# EAGLE library part SG3525AN (library ST Microelectronics)
REGULATING PULSE WIDTH MODULATORS
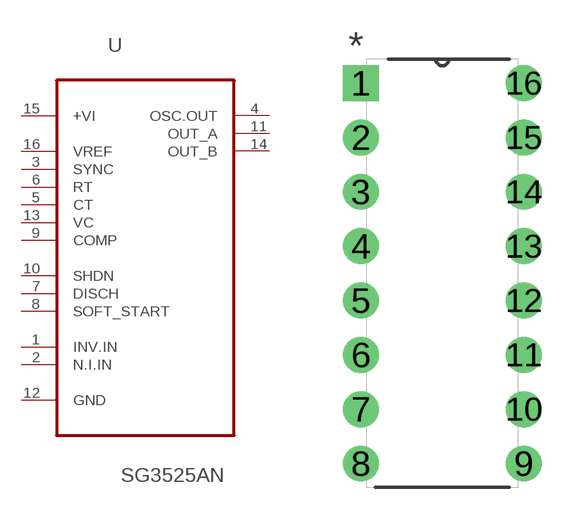
[diagram p292: symbol with the pads of DIP254P762X510-16; footprint DIP254P762X510-16]

Designator prefix U

## SG3525AN (MPN: SG3525AN; OC_FARNELL: 1564368; OC_NEWARK: 89K1506; PACKAGE: PDIP-16; SUPPLIER: STMICROELECTRONICS)  [DIP254P762X510-16]
1  INV.IN  in
2  N.I.IN  in
3  SYNC  pas
4  OSC.OUT  out
5  CT  pas
6  RT  pas
7  DISCH  pas
8  SOFT_START  pas
9  COMP  pas
10  SHDN  in
11  OUT_A  out
12  GND  pas
13  VC  pas
14  OUT_B  out
15  +VI  pwr
16  VREF  pas

## Footprint DIP254P762X510-16 (pad centres in mm)
drill 1.118 square: 1 -7.62,17.78
drill 1.118: 2 -7.62,15.24; 3 -7.62,12.7; 4 -7.62,10.16; 5 -7.62,7.62; 6 -7.62,5.08; 7 -7.62,2.54; 8 -7.62,0; 9 0,0; 10 0,2.54; 11 0,5.08; 12 0,7.62; 13 0,10.16; 14 0,12.7; 15 0,15.24; 16 0,17.78